# EAGLE library part TCM8240MD (library Pygmy)
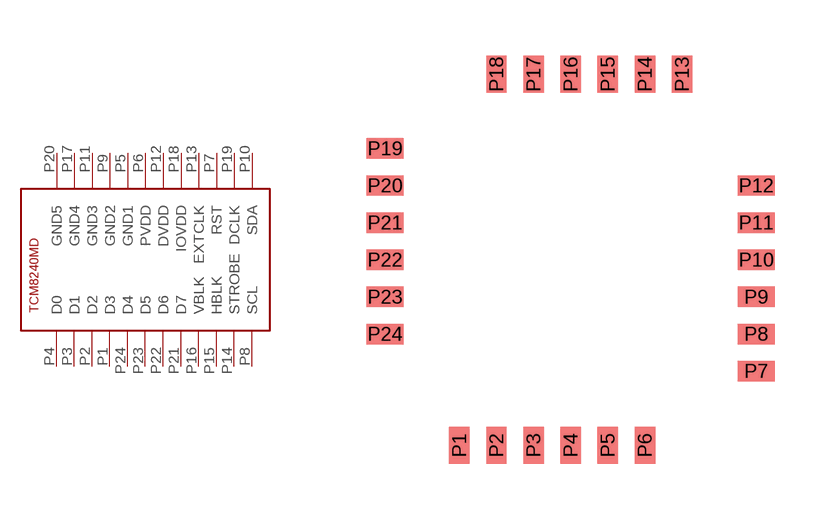
[diagram p33: symbol with the pads of TCM8240MD; footprint TCM8240MD]

Designator prefix -

## TCM8240MD  [TCM8240MD]
P1  D3
P2  D2
P3  D1
P4  D0
P5  GND1
P6  PVDD
P7  RST
P8  SCL
P9  GND2
P10  SDA
P11  GND3
P12  DVDD
P13  EXTCLK
P14  STROBE
P15  HBLK
P16  VBLK
P17  GND4
P18  IOVDD
P19  DCLK
P20  GND5
P21  D7
P22  D6
P23  D5
P24  D4

## Footprint TCM8240MD (pad centres in mm)
smd 0.55 x 1: P1 2,0; P2 3,0; P3 4,0; P4 5,0; P5 6,0; P6 7,0; P13 8,10; P14 7,10; P15 6,10; P16 5,10; P17 4,10; P18 3,10
smd 1 x 0.55: P7 10,2; P8 10,3; P9 10,4; P10 10,5; P11 10,6; P12 10,7; P19 0,8; P20 0,7; P21 0,6; P22 0,5; P23 0,4; P24 0,3